# Altium integrated library ERJ6ENF1000V.IntLib: 1 symbol
Pins are listed as number, name and electrical type; pins without a type are passive.

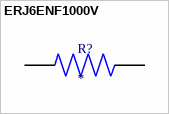
[diagram p0: symbol ERJ6ENF1000V]

## ERJ6ENF1000V
designator R?
MP: ERJ6ENF1000V; Package: None; Availability: Unavailable; Price: None; Value: *
footprint RES_ERJ6ENF1000V
pins: 1, 2